# EAGLE library part TTP223B (library CaliBeta-Integrados-6pin)
Sensor tactil capacitivo de sensibilidad variable VCC: 2V-5V
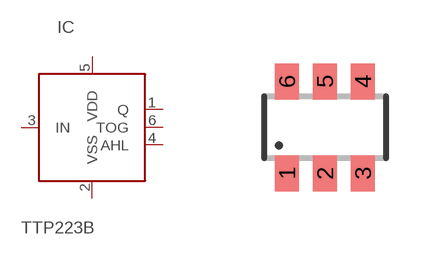
[diagram p0: symbol with the pads of SOT-23-6L; footprint SOT-23-6L]

Designator prefix IC

## TTP223B  [SOT-23-6L]
1  Q  out
2  VSS  pwr
3  IN  in
4  AHL
5  VDD  pwr
6  TOG

## Footprint SOT-23-6L (pad centres in mm)
smd 0.6 x 0.9: 1 -0.92,-1.25; 2 0.03,-1.25; 3 0.98,-1.25; 4 0.98,1.05; 5 0.03,1.05; 6 -0.92,1.05